# EAGLE library part ENCODER_YUMO (library ecar)
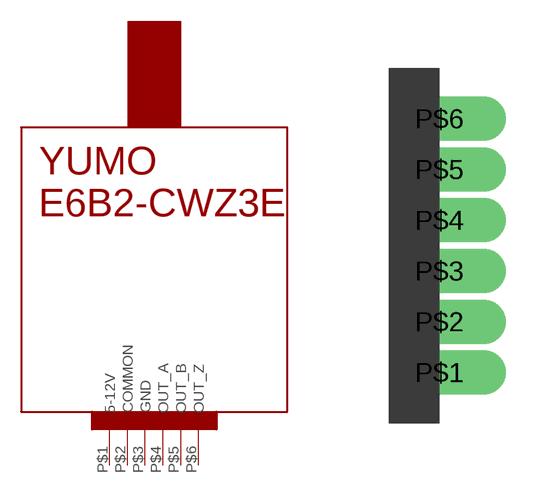
[diagram p9: symbol with the pads of ENCODER; footprint ENCODER]

Designator prefix -

## ENCODER_YUMO  [ENCODER]
P$1  5-12V
P$2  COMMON
P$3  GND
P$4  OUT_A
P$5  OUT_B
P$6  OUT_Z

## Footprint ENCODER (pad centres in mm)
drill 0.6 offset: P$1 1.27,1.27; P$2 1.27,2.54; P$3 1.27,3.81; P$4 1.27,5.08; P$5 1.27,6.35; P$6 1.27,7.62